# EAGLE library part 64600711622 (library WR-WTB)
WR-WTB 2.50 mm Male Shrouded Header Material Properties Insulator Material co Insulator Flammability Rating UL94 V-0 Color Beige Contact Material Copper Alloy Contact Plating Tin Contact Type Stamped Certification UL Approval E323964 General Information Operating Temperature -40 °C up to +105 °C Compliance RoHS IR 3 A Working Voltage 250 V (AC) Withstanding Voltage 1000 V (AC) Contact Resistance 20 mΩ RISO 1000 MΩ Pitch 2.5 mm Gender Male Type Vertical Packaging Properties Packaging Bag <https://www.we-online.com/components/media/o33364v209%20Multi-WR-WTB250-6460xx11622.jpg> Details see: www.we-online.com/en/components/products/WTB_2_50_MALE_SHROUDED_HEADER_6460XX11622 <www.we-online.com/catalog/WTB_2_50_MALE_SHROUDED_HEADER_6460XX11622/?utm_source=eagle_model&utm_medium=description_link&utm_campaign=eisos_eagle> Updated by Ella 2025-03-06 2025 (C) Würth Elektronik
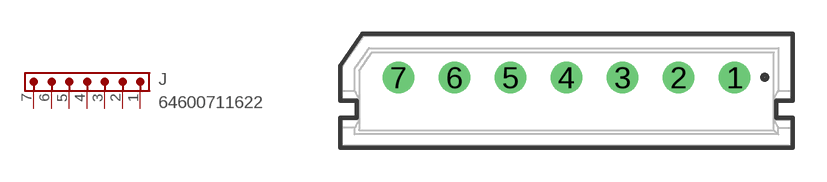
[diagram p47: symbol with the pads of 64600711622; footprint 64600711622]

Designator prefix J

## 64600711622 (CONTACT-RESISTANCE: 20mOhm; DATASHEET-URL: https://www.we-online.com/redexpert/spec/64600711622?ae; GENDER: Male; IR: 3A; L: 20mm; MOUNT: THT; PACKAGING: Bag; PART-NUMBER: 64600711622; PCB-CABLE-PANEL: PCB; PINS: 7; PITCH: 2.5mm; TYPE: Vertical; VALUE: 64600711622; WORKING-VOLTAGE: 250V(AC))  [64600711622]
1  1  pas
2  2  pas
3  3  pas
4  4  pas
5  5  pas
6  6  pas
7  7  pas

## Footprint 64600711622 (pad centres in mm)
WR-WTB 2.50 mm Male Shrouded Header, 7 Pins
drill 0.9: 1 7.5,0.6; 2 5,0.6; 3 2.5,0.6; 4 0,0.6; 5 -2.5,0.6; 6 -5,0.6; 7 -7.5,0.6